# Altium footprint library Inductors.PcbLib: 4 footprints
Each footprint in its own frame and in the unit in brackets; x right, y up, seen from the top. Pads: shape width x height; smd on the part's side, far side on the other; paste and mask are expansions set on the pad; w line width, h text height; cw(c..) or ccw(c..) is an arc to the next point about the centre after c.
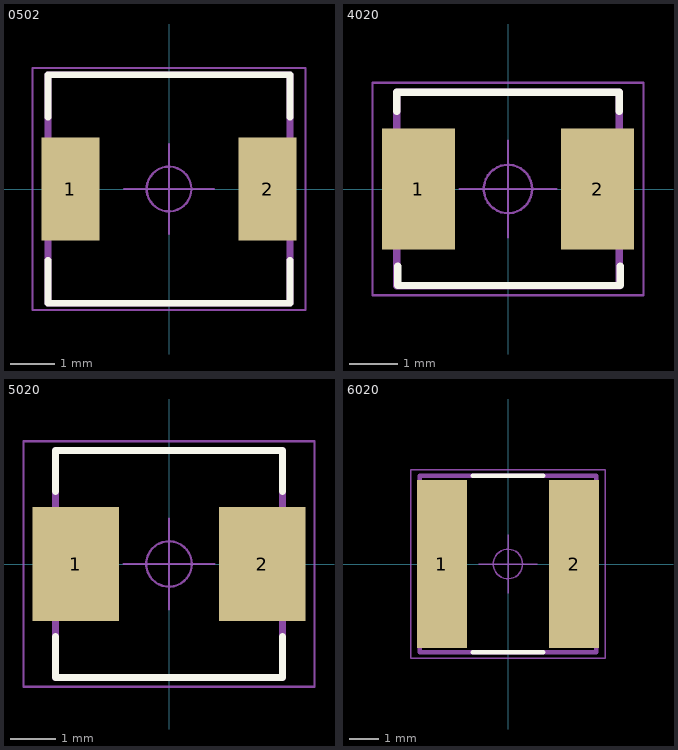
[diagram p0: the footprints below, top view; thin cyan lines are the x and y axes]

## 0502 [mm]
pads (2):
  rect 1.3x2.3 smd: 1(-2.2,0) 2(2.2,0)
Top Overlay:
  lines w0.15: -2.7,-1.594 -2.7,-2.55 2.7,-2.55 2.7,-1.594 ; -2.7,1.6 -2.7,2.55 2.7,2.55 2.7,1.6
Mechanical 14:
  lines w0.15: -2.7,-2.55 -2.7,2.55 2.7,2.55 2.7,-2.55 -2.7,-2.55
  text ".Designator" at -0.7,-0.4 h1
Mechanical 15:
  circle w0.05: c0,0 r0.5
  lines w0.05: -1,0 1,0 ; 0,-1 0,1 ; -3.05,-2.7 3.05,-2.7 3.05,2.7 -3.05,2.7 -3.05,-2.7
3D body: height 0.5, standoff 0, extent 2.249,-1.1 2.77,1.118
3D body: height 0.5, standoff 0, extent -2.77,-1.118 -2.25,1.1
3D body: height 2, standoff 0, extent -2.7,-2.55 2.7,2.55

## 4020 [mm]
pads (2):
  rect 1.5x2.5 smd: 1(-1.85,0) 2(1.85,0)
Top Overlay:
  lines w0.15: -2.3,1.6 -2.3,2 2.3,2 2.3,1.6 ; -2.28,-1.594 -2.28,-1.994 2.32,-1.994 2.32,-1.594
Mechanical 14:
  lines w0.15: -2.3,-2 2.3,-2 2.3,2 -2.3,2 -2.3,-2
  text ".Designator" at -0.7,-0.4 h1
Mechanical 15:
  circle w0.05: c0,0 r0.5
  lines w0.05: -1,0 1,0 ; 0,-1 0,1 ; -2.8,-2.2 -2.8,2.2 2.8,2.2 2.8,-2.2 -2.8,-2.2
3D body "4020.STEP": height 1.8, standoff 0, extent -2.32,-2.03 2.32,2.03

## 5020 [mm]
pads (2):
  rect 1.9x2.5 smd: 1(-2.05,0) 2(2.05,0)
Top Overlay:
  lines w0.15: -2.5,-1.594 -2.5,-2.5 2.5,-2.5 2.5,-1.594 ; -2.5,1.594 -2.5,2.5 2.5,2.5 2.5,1.594
Mechanical 14:
  lines w0.15: -2.5,-2.5 -2.5,2.5 2.5,2.5 2.5,-2.5 -2.5,-2.5
  text ".Designator" at -0.7,-0.4 h1
Mechanical 15:
  circle w0.05: c0,0 r0.5
  lines w0.05: -1,0 1,0 ; 0,-1 0,1 ; -3.2,-2.7 3.2,-2.7 3.2,2.7 -3.2,2.7 -3.2,-2.7
3D body "5020.STEP": height 2, standoff 0, extent -2.5,-2.5 2.5,2.5

## 6020 [mm]
pads (2):
  rect 1.7x5.7 smd: 1(-2.25,0) 2(2.25,0)
Top Overlay:
  lines w0.15: -1.2,-3 1.2,-3 ; -1.2,3 1.2,3
Mechanical 14:
  lines w0.15: -3,-3 -3,3 3,3 3,-3 -3,-3
  text ".Designator" at -0.7,-0.4 h1
Mechanical 15:
  circle w0.05: c0,0 r0.5
  lines w0.05: -1,0 1,0 ; 0,-1 0,1 ; -3.3,-3.2 3.3,-3.2 3.3,3.2 -3.3,3.2 -3.3,-3.2
3D body: height 2, standoff 0, extent -3,-3 3,3